# EAGLE library part MOLEX_503480-0600 (library biomimetic)
Molex FPC connector, 6 pos.
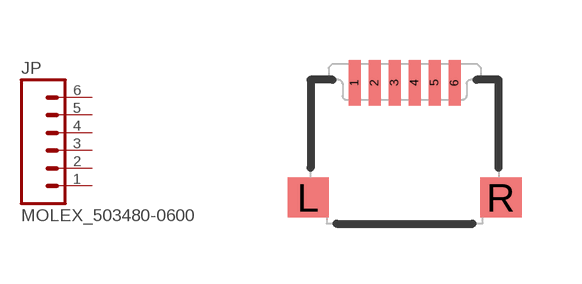
[diagram p9: symbol with the pads of MOLEX_503480-0600; footprint MOLEX_503480-0600]

Designator prefix JP

## MOLEX_503480-0600 (DIGIKEY: WM1387CT-ND)  [MOLEX_503480-0600]
1  1  pas
2  2  pas
3  3  pas
4  4  pas
5  5  pas
6  6  pas

## Footprint MOLEX_503480-0600 (pad centres in mm)
smd 0.3 x 1.15: 1 -1.25,1.725; 2 -0.75,1.725; 3 -0.25,1.725; 4 0.25,1.725; 5 0.75,1.725; 6 1.25,1.725
smd 1.035 x 1: L -2.408,-1.15; R 2.408,-1.15